# Altium footprint library SMD Electrolytic Aluminum capacitors.PcbLib: 5 footprints
Each footprint in its own frame and in the unit in brackets; x right, y up, seen from the top. Pads: shape width x height; smd on the part's side, far side on the other; paste and mask are expansions set on the pad; w line width, h text height; cw(c..) or ccw(c..) is an arc to the next point about the centre after c.
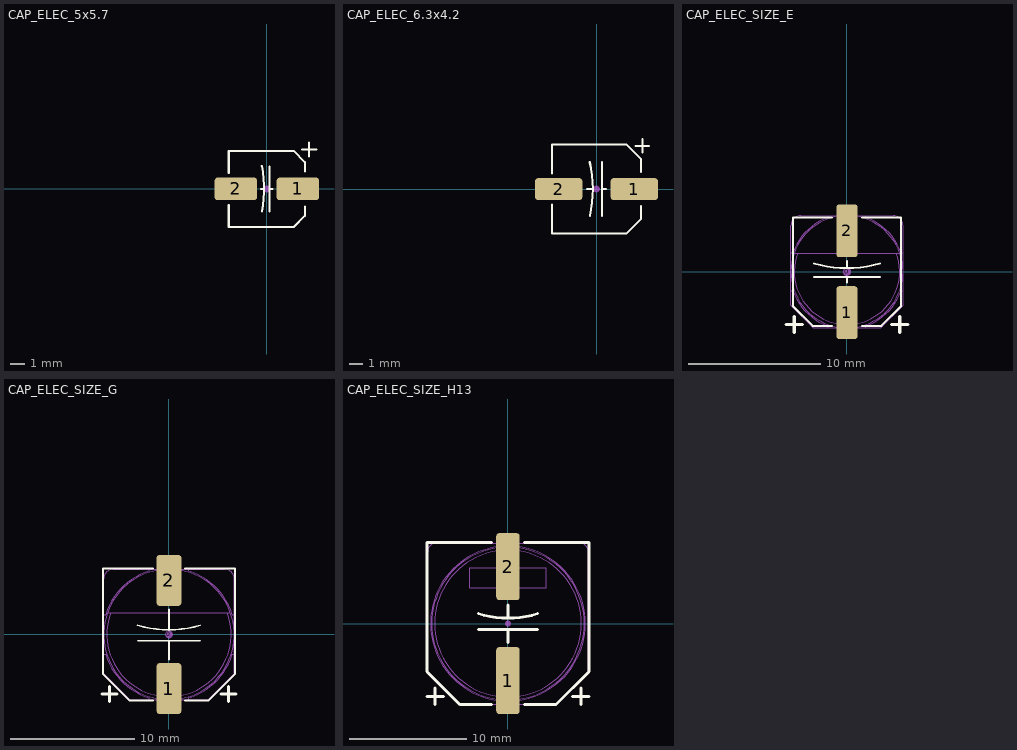
[diagram p0: the footprints below, top view; thin cyan lines are the x and y axes]

## CAP_ELEC_5x5.7 [mm] "Capacitor, polarized, aluminum can; 5x5.7mm DxH"
height 5.7
pads (3):
  round 0.508 on Mech15: 0(0,0)
  rrect25% 3x1.6 smd: 1(2.2,0) 2(-2.2,0)
Top Overlay:
  lines w0.152: -2.7,-1.15 -2.7,-2.7 1.9,-2.7 2.7,-1.9 2.7,-1.25 ; -2.7,1.15 -2.7,2.7 1.9,2.7 2.7,1.9 2.7,1.25 ; -0.4,0 -0.2,0 ; -0.356,1.634 cw(c-8.89,-0.007) -0.349,-1.611 ; 0.2,-1.6 0.2,1.6 ; 0.2,0 0.4,0 ; 2.5,2.8 3,2.8 3.5,2.8 ; 3,2.3 3,3.3
3D body "Cap, elec, 5x5.7_.STEP": height 5.7, standoff 0, extent -2.65,-2.65 2.65,2.65

## CAP_ELEC_6.3x4.2 [mm] "Capacitor, polarized, aluminum can; 6.3x4.2mm DxH"
height 4.2
pads (3):
  round 0.508 on Mech15: 0(0,0)
  rrect25% 3.5x1.6 smd: 1(2.8,0) 2(-2.8,0)
Top Overlay:
  lines w0.152: -3.3,-1.15 -3.3,-3.3 2.2,-3.3 3.3,-2.2 3.3,-1.25 ; -3.3,1.15 -3.3,3.3 2.2,3.3 3.3,2.2 3.3,1.25 ; -0.7,0 -0.3,0 ; -0.5,2 cw(c-8.958,0.003) -0.497,-1.981 ; 0.4,-2 0.4,2 ; 0.5,0 0.7,0 ; 2.9,3.2 3.4,3.2 3.9,3.2 ; 3.4,2.7 3.4,3.7
3D body "Cap, elec, 6.3x4.2.STEP": height 4.23, standoff 0, extent -3.3,-3.3 3.3,3.3

## CAP_ELEC_SIZE_E [mm] "Capacitor, polarized, aluminum can; 8.0x6.2mm DxH"
height 6.2
pads (3):
  round 0.635 on Mech15: 0(0,0)
  rrect25% 1.6x4 smd: 1(0,-3.1) 2(0,3.1)
Top Overlay:
  lines w0.152: -2.518,0.641 ccw(c0.003,8.958) 2.518,0.639 ; -2.5,-0.4 2.5,-0.4 ; -1.15,-4.1 -2.6,-4.1 -4.1,-2.6 -4.1,4.1 -1.15,4.1 ; 0,-0.8 0,-0.4 ; 0,0.3 0,0.8 ; 1.15,-4.1 2.6,-4.1 4.1,-2.6 4.1,4.1 1.15,4.1
  lines w0.254: -4.6,-4 -3.4,-4 ; -4,-4.6 -4,-3.4 ; 3.4,-4 4.6,-4 ; 4,-4.6 4,-3.4
Mechanical 13:
  lines w0.05: -4.25,-1.436 -4.106,-1.436 ccw(c0,0) -1.436,-4.106 -1.436,-4.25 ; -4.25,1.436 -4.106,1.436 cw(c0,0) -1.436,4.106 -1.436,4.25 ; -4.005,1.417 cw(c0,0) 4.005,1.417 ; -3.741,1.417 ccw(c0,0) 3.741,1.417 ; -0.325,-4.25 -0.325,-4.75 0.325,-4.75 0.325,-4.25 ; -0.325,4.25 -0.325,4.75 0.325,4.75 0.325,4.25 ; 1.436,-4.25 1.436,-4.106 ccw(c0,0) 4.106,-1.436 4.25,-1.436 ; 1.436,4.25 1.436,4.106 cw(c0,0) 4.106,1.436 4.25,1.436 ; -4.25,-2.55 -4.25,3.5 cw(c-3.5,3.5) -3.5,4.25 3.5,4.25 cw(c3.5,3.5) 4.25,3.5 4.25,-2.55 2.55,-4.25 -2.55,-4.25 -4.25,-2.55 ; -4.007,1.417 ccw(c0,0) 4.007,1.417 -4.007,1.417
3D body "CAP Alum Elec Size E.STEP": height 6.5, standoff 0, extent -4.25,-4.75 4.25,4.75

## CAP_ELEC_SIZE_G [mm] "Capacitor, polarized, aluminum can; 10.0x10.2mm DxH"
height 10.2
pads (3):
  round 0.635 on Mech15: 0(0,0)
  rrect25% 2x4.1 smd: 1(0,-4.35) 2(0,4.35)
Top Overlay:
  lines w0.152: -2.518,0.741 ccw(c0.003,9.058) 2.518,0.739 ; -2.5,-0.5 2.5,-0.5 ; -1.3,-5.3 -3.2,-5.3 -5.3,-3.2 -5.3,5.3 -1.3,5.3 ; 0,-2 0,-0.5 ; 0,0.4 0,2 ; 1.3,-5.3 3.2,-5.3 5.3,-3.2 5.3,5.3 1.3,5.3
  lines w0.254: -5.4,-4.8 -4.2,-4.8 ; -4.8,-5.4 -4.8,-4.2 ; 4.2,-4.8 5.4,-4.8 ; 4.8,-5.4 4.8,-4.2
Mechanical 13:
  lines w0.05: -5.25,-1.601 -5.105,-1.601 ccw(c0,0) -1.601,-5.105 -1.601,-5.25 ; -5.25,1.601 -5.105,1.601 cw(c0,0) -1.601,5.105 -1.601,5.25 ; -4.948,1.75 cw(c0,0) 4.948,1.75 ; -4.684,1.75 ccw(c0,0) 4.684,1.75 ; -0.45,-5.25 -0.45,-6 0.45,-6 0.45,-5.25 ; -0.45,5.25 -0.45,6 0.45,6 0.45,5.25 ; 1.601,-5.25 1.601,-5.105 ccw(c0,0) 5.105,-1.601 5.25,-1.601 ; 1.601,5.25 1.601,5.105 cw(c0,0) 5.105,1.601 5.25,1.601 ; -5.25,-3.15 -5.25,4.5 cw(c-4.5,4.5) -4.5,5.25 4.5,5.25 cw(c4.5,4.5) 5.25,4.5 5.25,-3.15 3.15,-5.25 -3.15,-5.25 -5.25,-3.15 ; -4.95,1.75 ccw(c0,0) 4.95,1.75 -4.95,1.75
3D body "CAP Alum Elec Size G.STEP": height 10.5, standoff 0, extent -5.25,-6 5.25,6

## CAP_ELEC_SIZE_H13 [mm] "Capacitor, polarized, aluminum can; 12.5x13.5mm DxH"
height 13.5
pads (3):
  round 0.508 on Mech15: 0(0,0)
  rrect25% 2x5.7 smd: 1(0,-4.85) 2(0,4.85)
Top Overlay:
  lines w0.254: -6.9,-6.2 -5.5,-6.2 ; -6.2,-6.9 -6.2,-5.5 ; -2.518,0.841 ccw(c0.003,9.158) 2.518,0.839 ; -2.5,-0.5 2.5,-0.5 ; -1.4,-6.9 -4.1,-6.9 -6.9,-4.1 -6.9,6.9 -1.4,6.9 ; 0,-1.6 0,-0.5 ; 0,0.5 0,1.6 ; 1.4,-6.9 4.1,-6.9 6.9,-4.1 6.9,6.9 1.4,6.9 ; 5.5,-6.2 6.9,-6.2 ; 6.2,-6.9 6.2,-5.5
Mechanical 13:
  circle w0.05: c0,0 r6.25
  circle w0.05: c0,0 r6.5
  circle w0.05: c0,0 r6.6
  lines w0.05: -0.45,-6.85 -0.45,-7.5 0.45,-7.5 0.45,-6.85 ; -0.45,6.85 -0.45,7.5 0.45,7.5 0.45,6.85 ; -6.85,-4.11 -6.85,6.1 cw(c-6.1,6.1) -6.1,6.85 6.1,6.85 cw(c6.1,6.1) 6.85,6.1 6.85,-4.11 4.11,-6.85 -4.11,-6.85 -6.85,-4.11 ; -3.25,3.055 3.25,3.055 3.25,4.745 -3.25,4.745 -3.25,3.055
3D body "CAP Alum Elec Size H13.STEP": height 14, standoff 0, extent -6.85,-7.5 6.85,7.5